# Altium schematic symbol library C48543706.SchLib: 1 symbol
Pins are listed as number, name and electrical type; pins without a type are passive.

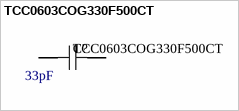
[diagram p0: symbol TCC0603COG330F500CT]

## TCC0603COG330F500CT
designator C?  value 33pF
33pF C0G ±1% 50V 0603 Ceramic Capacitors; Name: C48543706; Source: LCSC
footprint C0603 (1uF ±10% 50V Ceramic Capacitor X5R 0603)
pins: 1, 2